# Altium footprint library Wireless power_inverter.PcbLib: 24 footprints (part 1 of 2)
Each footprint in its own frame and in the unit in brackets; x right, y up, seen from the top. Pads: shape width x height; smd on the part's side, far side on the other; paste and mask are expansions set on the pad; w line width, h text height; cw(c..) or ccw(c..) is an arc to the next point about the centre after c.
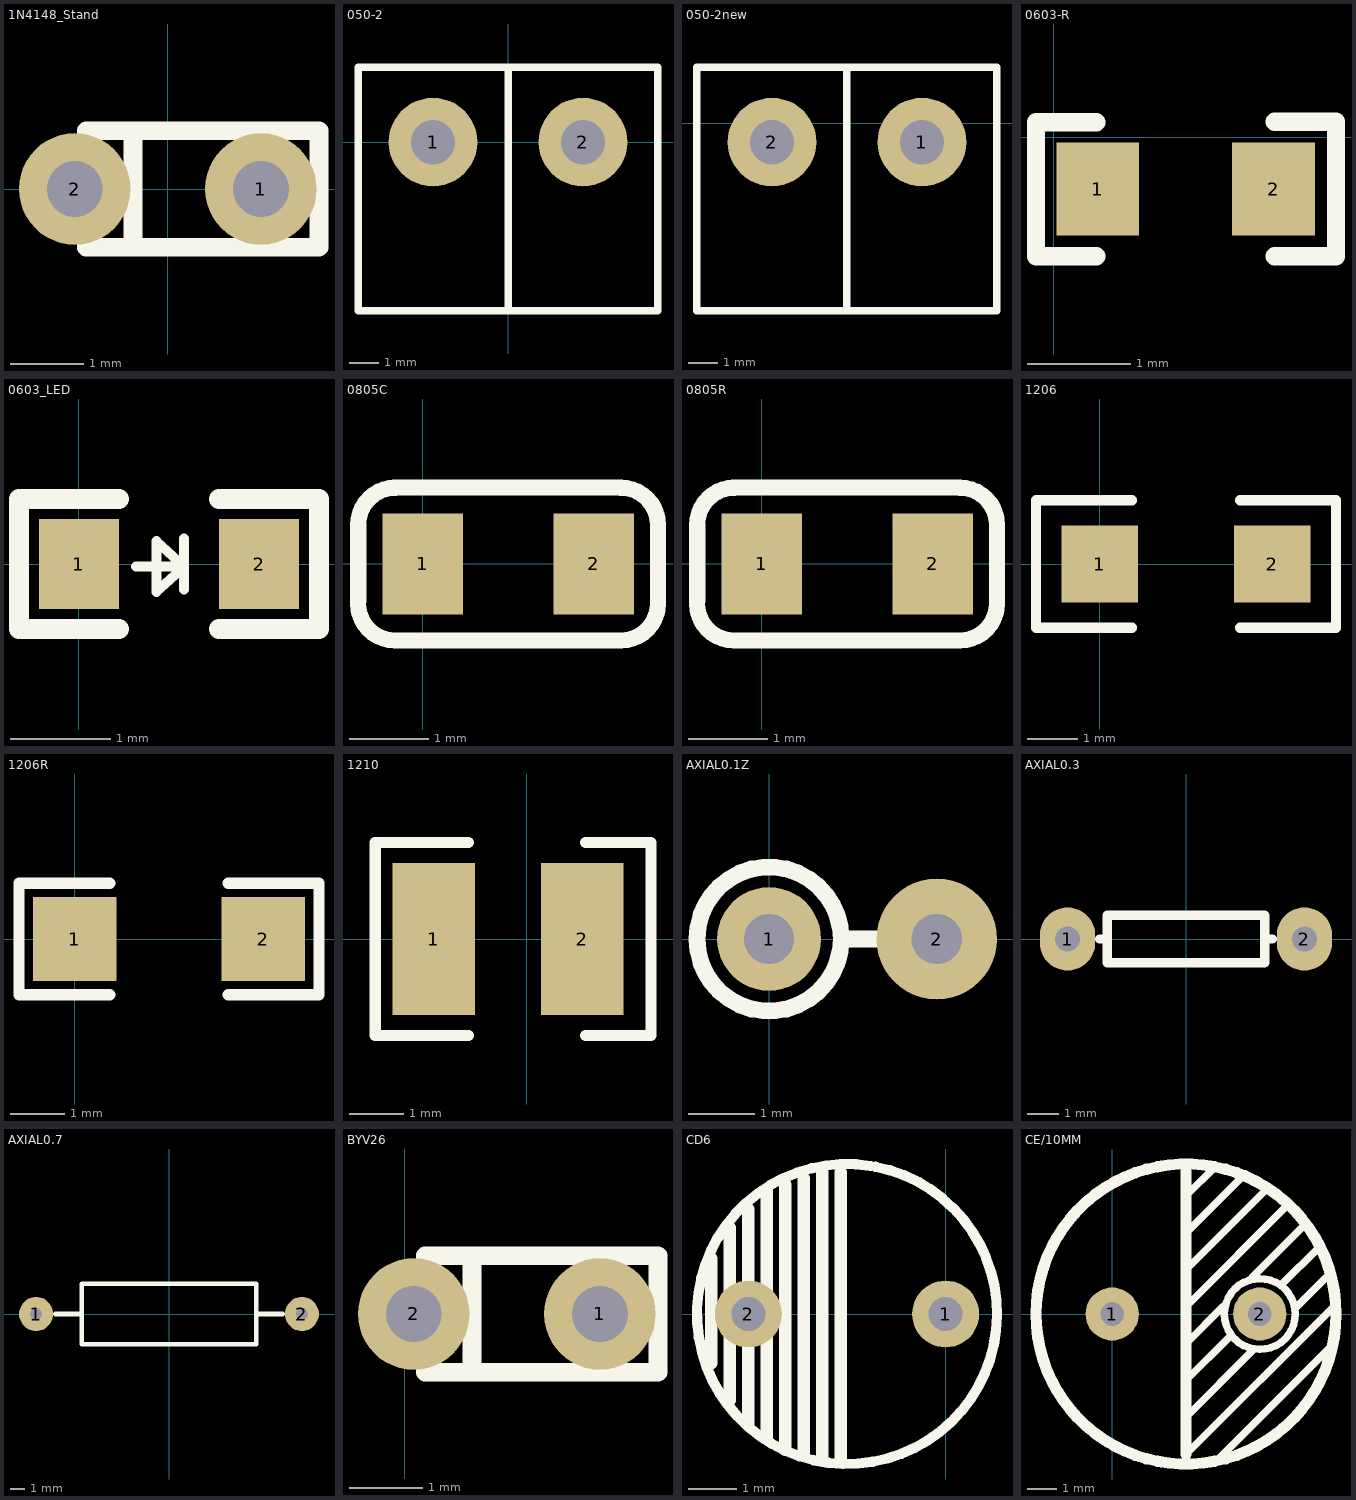
[diagram p0: the footprints below, top view; thin cyan lines are the x and y axes]

## 1N4148_Stand [mil]
pads (2):
  round 60 hole 30: 1(50,0) 2(-50,0)
Top Overlay:
  lines w10: -18.75,-31.25 -18.75,31.25 ; -43.75,-31.25 -43.75,31.25 81.25,31.25 81.25,-31.25 -43.75,-31.25
3D body "SW3dPS-1N4148_Stand_V2008.STEP": height 185.74, standoff -70.87, extent -58.49,-32.47 82.49,32.49

## 050-2 [mm]
height 9.91
pads (2):
  round 3 hole 1.5: 1(-2.54,0) 2(2.54,0)
Top Overlay:
  lines w0.254: 0,-5.715 0,2.54 ; -5.08,-5.715 -5.08,2.54 5.08,2.54 5.08,-5.715 -5.08,-5.715
3D body "050-2.STEP": height 11.2, standoff -1.8, extent -5.04,-5.5 4.96,2.5

## 050-2new [mm]
pads (2):
  round 3 hole 1.5: 1(24.257,-0.635) 2(19.177,-0.635)
Top Overlay:
  lines w0.254: 21.717,-6.35 21.717,1.905 ; 16.637,-6.35 16.637,1.905 26.797,1.905 26.797,-6.35 16.637,-6.35
3D body "050-2.STEP": height 11.2, standoff -1.8, extent 16.677,-6.135 26.677,1.865

## 0603-R [mm]
height 9.91
pads (2):
  rect 0.8x0.9 smd: 1(0.425,-0.5) 2(2.125,-0.5)
Top Overlay:
  lines w0.178: 0.412,-1.148 -0.171,-1.148 -0.171,0.146 0.412,0.146 ; 2.139,-1.148 2.729,-1.148 2.729,0.15 2.139,0.15
3D body "User Library-0603 SMD Resistor.STEP": height 0.3, standoff 0, extent 0.495,-0.883 2.095,-0.083

## 0603_LED [mm]
height 9.91
pads (2):
  rect 0.8x0.9 smd: 1(0,0) 2(1.8,0)
Top Overlay:
  lines w0.1: 1.052,-0.254 1.052,0.254 ; 1.052,0 1.052,-0.025 ; 1.052,-0.025 0.57,-0.025 1.052,-0.025 ; 1.052,-0.025 0.773,0.229 0.773,-0.279 1.052,-0.025
  lines w0.2: 0.4,-0.65 -0.6,-0.65 -0.6,0.65 0.4,0.65 ; 1.4,-0.65 2.4,-0.65 2.4,0.65 1.4,0.65
3D body "User Library-led_0603.STEP": height 0.6, standoff 0, extent 0.054,-0.375 1.674,0.425

## 0805C [mil]
height 39.37
pads (2):
  rect 40x50 smd: 1(0,0) 2(85,0)
Top Overlay:
  lines w8: -32.11,-19.59 ccw(c-13.7,-19.59) -13.7,-38 ; -32,-18.5 -32,18.5 ; -32,19.5 cw(c-13.59,19.5) -13.59,37.91 ; -14.12,38 98.09,38 ; -12.7,-38 98.11,-38 ; 98.59,-38 ccw(c98.59,-19.59) 117,-19.59 ; 98.59,37.91 cw(c98.59,19.5) 117,19.5 ; 117,-18.59 117,18.5
3D body "User Library-0805 SMD Capacitor.STEP": height 30.39, standoff -0.39, extent 3.15,-24.61 81.89,24.61

## 0805R [mil]
height 39.37
pads (2):
  rect 40x50 smd: 1(0,0) 2(85,0)
Top Overlay:
  lines w8: -32.11,-19.59 ccw(c-13.7,-19.59) -13.7,-38 ; -32,-18.5 -32,18.5 ; -32,19.5 cw(c-13.59,19.5) -13.59,37.91 ; -14.12,38 98.09,38 ; -12.7,-38 98.11,-38 ; 98.59,-38 ccw(c98.59,-19.59) 117,-19.59 ; 98.59,37.91 cw(c98.59,19.5) 117,19.5 ; 117,-18.59 117,18.5
3D body "User Library-0805 SMD R.STEP": height 30.39, standoff -0.39, extent 3.26,-24.61 82,24.61

## 1206 [mil]
pads (2):
  rect 60x60 smd: 1(0,0) 2(135,0)
Top Overlay:
  lines w8: 25,-50 -50,-50 -50,50 25,50 ; 110,-50 185,-50 185,50 110,50
3D body "R1206.STEP": height 23.62, standoff 0, extent 4.01,-32.49 130,30.5

## 1206R [mil]
height 390.16
pads (2):
  rect 60x60 smd: 1(0,0) 2(135,0)
Top Overlay:
  lines w8: 25,-40 -40,-40 -40,40 25,40 ; 110,-40 175,-40 175,40 110,40
3D body "R1206.STEP": height 23.62, standoff 0, extent 4.01,-30.49 130,32.5

## 1210 [mil]
height 390.16
pads (2):
  rect 60x110 smd: 1(-67.5,0) 2(40,0)
Top Overlay:
  lines w8: -42.5,-70 -110,-70 -110,70 -42.5,70 ; 42.5,-70 90,-70 90,70 42.5,70

## AXIAL0.1Z [mil]
height 390.16
pads (2):
  round 62 hole 30: 1(0,0)
  round 72 hole 30: 2(100,0)
Top Overlay:
  circle w10: c0,0 r43.01
  lines w10: 45,0 70,0

## AXIAL0.3 [mil]
height 390.16
pads (2):
  oval 70x80 hole 32: 1(-150,0) 2(150,0)
Top Overlay:
  lines w12: -109,0 -100,0 ; 109,0 100,0 ; 100,0 100,30 -100,30 -100,-30 100,-30 100,0

## AXIAL0.7 [mil]
height 390.16
pads (2):
  round 90 hole 32: 1(-350,0) 2(350,0)
Top Overlay:
  lines w12: -300,0 -230,0 ; 230,0 300,0 ; -230,-80 -230,80 230,80 230,-80 -230,-80

## BYV26 [mil]
pads (2):
  round 60 hole 30: 1(105,100) 2(5,100)
Top Overlay:
  lines w10: 36.25,68.75 36.25,131.25 ; 11.25,68.75 11.25,131.25 136.25,131.25 136.25,68.75 11.25,68.75
3D body "SW3dPS-1N4148_Stand_V2008.STEP": height 185.74, standoff -70.87, extent -3.49,67.53 137.49,132.49

## CD6 [mm]
height 9.91
pads (2):
  round 1.38 hole 0.7: 1(0,0) 2(-4.064,0)
Top Overlay:
  lines w0.21: -1.549,3.052 ccw(c-2.032,0) -1.442,3.033
  lines w0.254: -4.826,-1.016 -4.826,1.143 ; -4.445,-1.778 -4.445,1.778 ; -4.064,-2.286 -4.064,2.159 ; -3.683,-2.54 -3.683,2.54 ; -3.302,-2.794 -3.302,2.667 ; -2.921,-2.921 -2.921,2.794 ; -2.54,-2.921 -2.54,2.921 ; -2.159,-3.048 -2.159,2.921

## CE/10MM [mm]
height 9.91
pads (2):
  round 1.8 hole 0.8: 1(0,0) 2(5,0)
Top Overlay:
  circle w0.254: c5,0 r1.2
  circle w0.381: c2.5,0 r5.08
  lines w0.254: 2.5,-4.75 7.5,0.25 ; 2.5,-3.5 4.75,-1.25 ; 2.5,-2.25 4,-0.75 ; 2.5,-1 3.75,0.25 ; 2.5,0.25 6,3.75 ; 2.5,1.5 5.25,4.25 ; 2.5,4 3.5,5 ; 2.625,2.875 4.5,4.75 ; 3.5,-5 7.5,-1 ; 4.75,1.25 6.5,3 ; 5.75,1 7,2.25 ; 6.25,0.25 7.25,1.25 ; 7.371,-1.589 7.4,-1.425
  lines w0.381: 2.5,-4.75 2.5,4.826
3D body "User Library-Cap electro 10x16x5_0mm.STEP": height 16.53, standoff -3.74, extent -2.551,-5 7.5,5.051